# Altium footprint library dsau-motherboard.PcbLib: 22 footprints (part 1 of 2)
Each footprint in its own frame and in the unit in brackets; x right, y up, seen from the top. Pads: shape width x height; smd on the part's side, far side on the other; paste and mask are expansions set on the pad; w line width, h text height; cw(c..) or ccw(c..) is an arc to the next point about the centre after c.
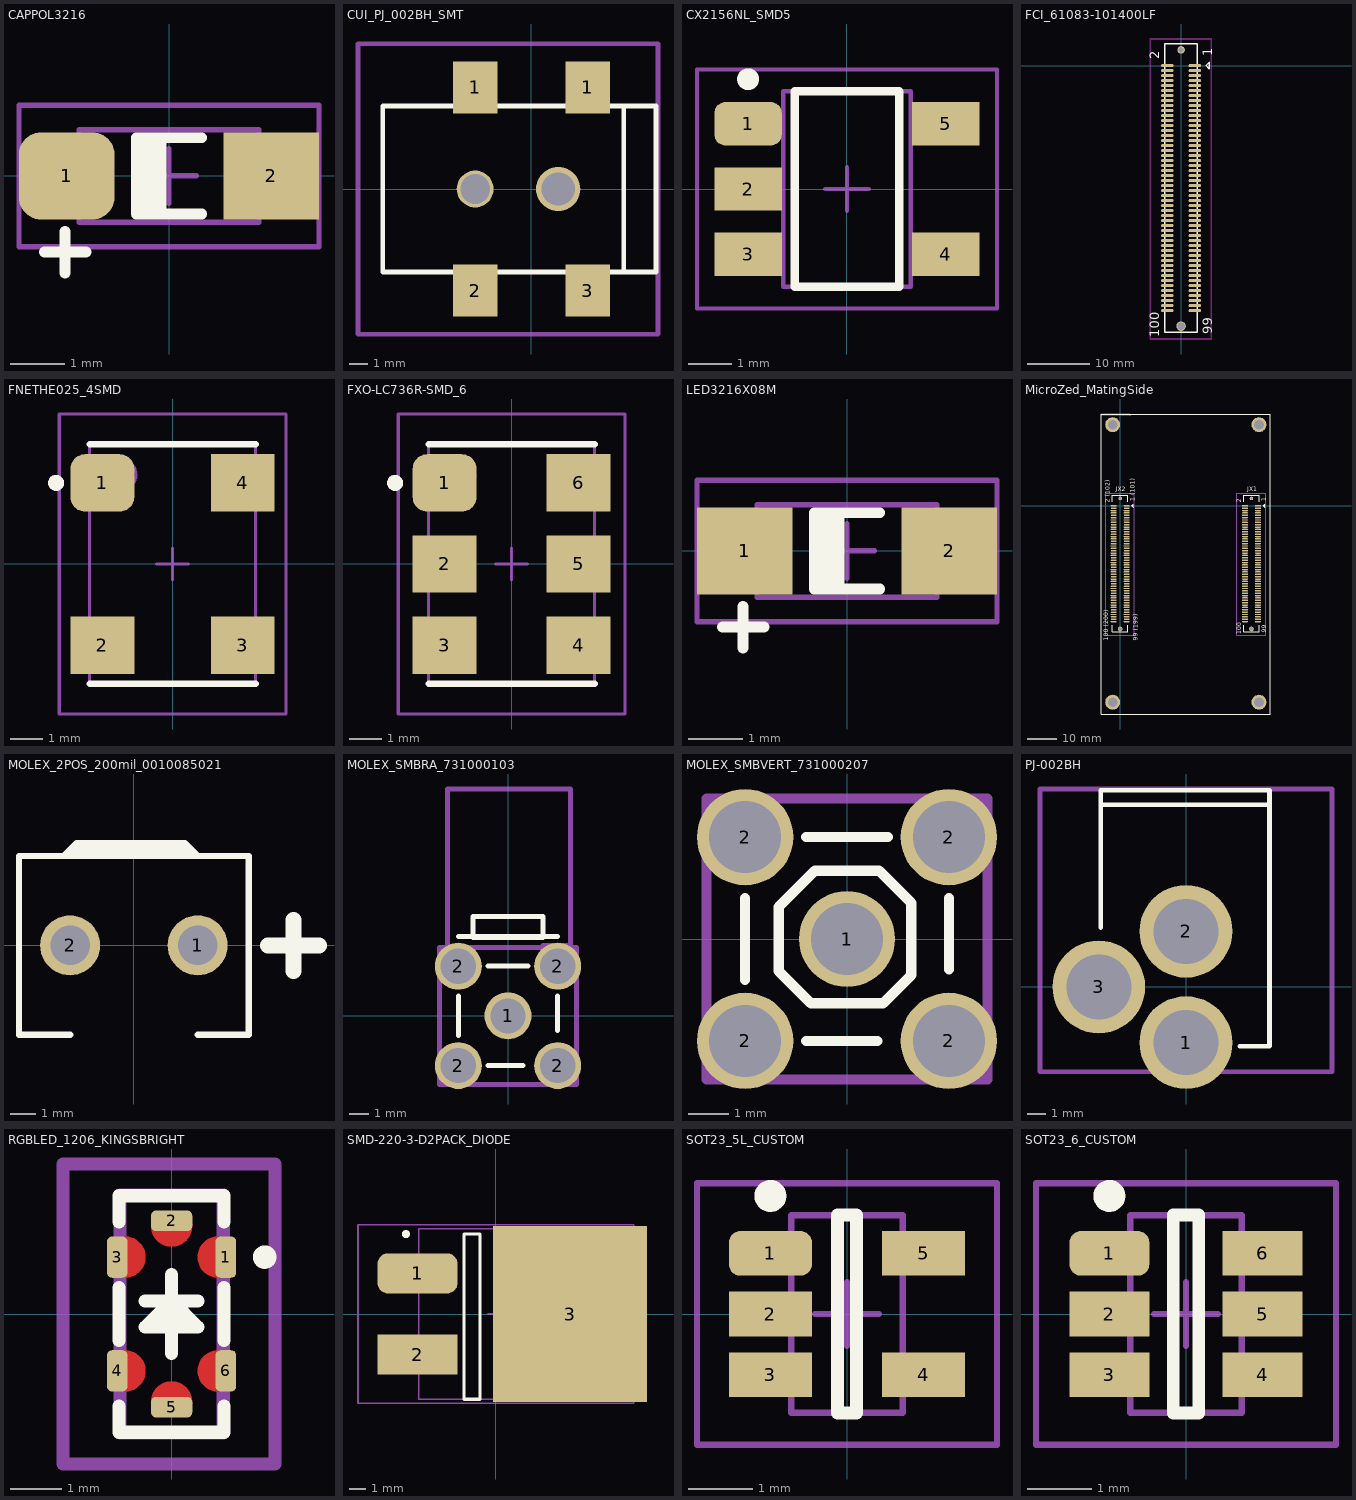
[diagram p0: the footprints below, top view; thin cyan lines are the x and y axes]

## CAPPOL3216 [mm] "Chip LED 2-Leads, Body 3.2x1.6mm, IPC Low Density"
height 0.75
pads (2):
  rrect50% 1.75x1.6 smd: 1(-1.875,0)
  rect 1.75x1.6 smd: 2(1.875,0)
Top Overlay:
  rectangle: -0.6,-0.7 -0.05,0.7
  lines w0.2: -1.905,-1.143 -1.905,-1.651 ; -1.651,-1.397 -2.159,-1.397 -1.905,-1.397 ; -1.524,-1.397 -2.286,-1.397 -1.905,-1.397 ; 0.6,-0.7 -0.6,-0.7 -0.6,0.7 0.6,0.7 ; -1.905,-1.651 -1.905,-1.397 ; -1.905,-1.651 -1.905,-1.778 -1.905,-1.016 -1.905,-1.397
Mechanical 13:
  lines w0.1: -1.65,-0.85 -1.65,0.85 1.65,0.85 1.65,-0.85 -1.65,-0.85
Mechanical 15:
  lines w0.1: -0.5,0 0.5,0 ; 0,-0.5 0,0.5 ; -2.75,-1.3 -2.75,1.3 2.75,1.3 2.75,-1.3 -2.75,-1.3
3D body: height 1.55, standoff 0, extent -1.65,-0.95 -0.775,0.95
3D body: height 1.55, standoff 0, extent 0.775,-0.95 1.65,0.925
3D body: height 1.5, standoff 0, extent -0.775,-0.9 0.775,0.9

## CUI_PJ_002BH_SMT [mm] "power connector"
pads (6):
  rect 2.4x2.8 smd: 1(-3.05,5.5) 1(3.05,5.5) 2(-3.05,-5.5) 3(3.05,-5.5)
  round 2 hole 1.6: ""(-3.05,0)
  round 2.4 hole 1.8: ""(1.45,0)
Top Overlay:
  lines w0.254: 5,-4.5 5,4.5 ; -8.05,-4.5 6.75,-4.5 6.75,4.5 -8.05,4.5 -8.05,-4.5
Mechanical 13:
  lines w0.254: -9.398,0 -9.398,7.874 6.858,7.874 6.858,-7.874 -9.398,-7.874 -9.398,0.254
3D body: height 0.4, standoff 0, extent 2.262,-6.075 3.837,-4.5
3D body: height 0.4, standoff 0, extent -3.837,-6.075 -2.262,-4.5
3D body: height 0.4, standoff 0, extent -3.838,4.5 -2.263,6.075
3D body: height 0.4, standoff 0, extent 2.262,4.5 3.837,6.075
3D body: height 11.2, standoff 0.2, extent -8.05,-4.5 6.75,4.5
3D body: height 0, standoff -1.2, extent 0.656,-0.773 2.25,0.823
3D body: height 0, standoff -1.2, extent -3.648,-0.573 -2.452,0.625

## CX2156NL_SMD5 [mm] "SOT23, 5-Leads, Body 4.5x5.4mm (max), Pitch 1.50mm, IPC Low Density"
height 3
pads (5):
  rrect50% 1.55x1 smd: 1(-2.275,1.5)
  rect 1.55x1 smd: 2(-2.275,0) 3(-2.275,-1.5) 4(2.275,-1.5) 5(2.275,1.5)
Top Overlay:
  circle w0.25: c-2.275,2.525 r0.125
  lines w0.2: -1.2,-2.25 1.2,-2.25 1.2,2.25 -1.2,2.25 -1.2,-2.25
Mechanical 13:
  lines w0.1: -1.47,-2.25 -1.47,2.25 1.47,2.25 1.47,-2.25 -1.47,-2.25
Mechanical 15:
  lines w0.1: -0.5,0 0.5,0 ; 0,-0.5 0,0.5 ; -3.45,-2.75 -3.45,2.75 3.45,2.75 3.45,-2.75 -3.45,-2.75
3D body: height 3, standoff 0.13, extent -1.47,-2.25 1.47,2.25

## FCI_61083-101400LF [mm]
pads (102):
  oval 2x0.5 smd: 1(2.2,0) 2(2.2,-0.8) 3(2.2,-1.6) 4(2.2,-2.4) 5(2.2,-3.2) 6(2.2,-4) 7(2.2,-4.8) 8(2.2,-5.6) 9(2.2,-6.4) 10(2.2,-7.2) 11(2.2,-8) 12(2.2,-8.8) 13(2.2,-9.6) 14(2.2,-10.4) 15(2.2,-11.2) 16(2.2,-12) 17(2.2,-12.8) 18(2.2,-13.6) 19(2.2,-14.4) 20(2.2,-15.2) 21(2.2,-16) 22(2.2,-16.8) 23(2.2,-17.6) 24(2.2,-18.4) 25(2.2,-19.2) 26(2.2,-20) 27(2.2,-20.8) 28(2.2,-21.6) 29(2.2,-22.4) 30(2.2,-23.2) 31(2.2,-24) 32(2.2,-24.8) 33(2.2,-25.6) 34(2.2,-26.4) 35(2.2,-27.2) 36(2.2,-28) 37(2.2,-28.8) 38(2.2,-29.6) 39(2.2,-30.4) 40(2.2,-31.2) 41(2.2,-32) 42(2.2,-32.8) 43(2.2,-33.6) 44(2.2,-34.4) 45(2.2,-35.2) 46(2.2,-36) 47(2.2,-36.8) 48(2.2,-37.6) 49(2.2,-38.4) 50(2.2,-39.2) 51(-2.2,-39.2) 52(-2.2,-38.4) 53(-2.2,-37.6) 54(-2.2,-36.8) 55(-2.2,-36) 56(-2.2,-35.2) 57(-2.2,-34.4) 58(-2.2,-33.6) 59(-2.2,-32.8) 60(-2.2,-32) 61(-2.2,-31.2) 62(-2.2,-30.4) 63(-2.2,-29.6) 64(-2.2,-28.8) 65(-2.2,-28) 66(-2.2,-27.2) 67(-2.2,-26.4) 68(-2.2,-25.6) 69(-2.2,-24.8) 70(-2.2,-24) 71(-2.2,-23.2) 72(-2.2,-22.4) 73(-2.2,-21.6) 74(-2.2,-20.8) 75(-2.2,-20) 76(-2.2,-19.2) 77(-2.2,-18.4) 78(-2.2,-17.6) 79(-2.2,-16.8) 80(-2.2,-16) 81(-2.2,-15.2) 82(-2.2,-14.4) 83(-2.2,-13.6) 84(-2.2,-12.8) 85(-2.2,-12) 86(-2.2,-11.2) 87(-2.2,-10.4) 88(-2.2,-9.6) 89(-2.2,-8.8) 90(-2.2,-8) 91(-2.2,-7.2) 92(-2.2,-6.4) 93(-2.2,-5.6) 94(-2.2,-4.8) 95(-2.2,-4) 96(-2.2,-3.2) 97(-2.2,-2.4) 98(-2.2,-1.6) 99(-2.2,-0.8) 100(-2.2,0)
  round 1.524 hole 1.2: ""(0,-41.7)
  round 1.2 hole 0.8: ""(0,2.5)
Top Overlay:
  lines w0.254: -2.6,1 -2.6,3.5 ; -2.6,1.1 -2.6,-42.7 -2.2,-42.7 2.6,-42.7 2.6,-39.2 2.6,3.5 -2.6,3.5 ; -2.6,3.5 -2.6,3.5 ; 4,0 4,0 ; 4,0 4.5,-0.5 4.5,0.5 4,0 ; 4,0 4,0
  text "99" at 5,-43 h1.52
  text "100" at -3.5,-43.5 h1.52
  text "2" at -3.5,1 h1.52
  text "1" at 5,1.5 h1.52
Keep-Out Layer:
  lines w0.254: 0.05,-43.75 4.8,-43.75 4.8,4.25 -4.95,4.25 -4.95,-43.75 0.3,-43.75
3D body: height 4.7, standoff 0, extent -2.6,-42.7 2.6,3.5
3D body: height 0, standoff -0.7, extent -0.35,2.101 0.447,2.899
3D body: height 0, standoff -0.7, extent -0.525,-42.25 0.571,-41.152

## FNETHE025_4SMD [mm] "QFN, 6-Leads, Body 7.5x5.2mm (max), Pitch 3.00mm, Pitch1 2.54mm, IPC Low Density"
height 1.4
pads (4):
  rrect50% 2x1.8 smd: 1(-2.2,2.54)
  rect 2x1.8 smd: 2(-2.2,-2.54) 3(2.2,-2.54) 4(2.2,2.54)
Top Overlay:
  circle w0.25: c-3.65,2.54 r0.125
  lines w0.2: -2.6,-3.75 0.2,-3.75 ; -2.6,3.75 0.2,3.75 ; -0.2,-3.75 2.6,-3.75 ; -0.2,3.75 2.6,3.75
Mechanical 13:
  circle w0.1: c-1.65,2.8 r0.5
  lines w0.1: -2.6,-3.75 -2.6,3.75 2.6,3.75 2.6,-3.75 -2.6,-3.75
Mechanical 15:
  lines w0.1: -0.5,0 0.5,0 ; 0,-0.5 0,0.5 ; -3.55,-4.7 -3.55,4.7 3.55,4.7 3.55,-4.7 -3.55,-4.7
3D body: height 1.4, standoff 0.08, extent -2.6,-3.75 2.6,3.75

## FXO-LC736R-SMD_6 [mm] "QFN, 6-Leads, Body 7.5x5.2mm (max), Pitch 3.00mm, Pitch1 2.54mm, IPC Low Density"
height 1.4
pads (6):
  rrect50% 2x1.8 smd: 1(-2.1,2.54)
  rect 2x1.8 smd: 2(-2.1,0) 3(-2.1,-2.54) 4(2.1,-2.54) 5(2.1,0) 6(2.1,2.54)
Top Overlay:
  circle w0.25: c-3.65,2.54 r0.125
  lines w0.2: -2.6,-3.75 0.2,-3.75 ; -2.6,3.75 0.2,3.75 ; -0.2,-3.75 2.6,-3.75 ; -0.2,3.75 2.6,3.75
Mechanical 13:
  circle w0.1: c-1.65,2.8 r0.5
  lines w0.1: -2.6,-3.75 2.6,-3.75 2.6,3.75 -2.6,3.75 -2.6,-3.75
Mechanical 15:
  lines w0.1: -0.5,0 0.5,0 ; 0,-0.5 0,0.5 ; -3.55,-4.7 3.55,-4.7 3.55,4.7 -3.55,4.7 -3.55,-4.7
3D body: height 1.4, standoff 0.08, extent -2.6,-3.75 2.6,3.75

## LED3216X08M [mm] "Chip LED 2-Leads, Body 3.2x1.6mm, IPC Low Density"
height 0.75
pads (2):
  rect 1.75x1.6 smd: 1(-1.875,0) 2(1.875,0)
Top Overlay:
  rectangle: -0.6,-0.7 -0.05,0.7
  lines w0.2: -1.905,-1.143 -1.905,-1.651 ; -1.651,-1.397 -2.159,-1.397 -1.905,-1.397 ; -1.524,-1.397 -2.286,-1.397 -1.905,-1.397 ; 0.6,-0.7 -0.6,-0.7 -0.6,0.7 0.6,0.7 ; -1.905,-1.651 -1.905,-1.397 ; -1.905,-1.651 -1.905,-1.778 -1.905,-1.016 -1.905,-1.397
Mechanical 13:
  lines w0.1: -1.65,-0.85 -1.65,0.85 1.65,0.85 1.65,-0.85 -1.65,-0.85
Mechanical 15:
  lines w0.1: -0.5,0 0.5,0 ; 0,-0.5 0,0.5 ; -2.75,-1.3 -2.75,1.3 2.75,1.3 2.75,-1.3 -2.75,-1.3
3D body: height 0.2, standoff 0, extent -1.65,-0.85 1.65,0.85
3D body: height 0.75, standoff 0, extent -1.016,-0.826 0.889,0.826
3D body: height 0.5, standoff 0, extent -0.508,-0.508 0.508,0.508

## MicroZed_MatingSide [mm]
pads (208):
  oval 2x0.5 smd: 1(46.663,0) 2(42.263,0) 3(46.663,-0.8) 4(42.263,-0.8) 5(46.663,-1.6) 6(42.263,-1.6) 7(46.663,-2.4) 8(42.263,-2.4) 9(46.663,-3.2) 10(42.263,-3.2) 11(46.663,-4) 12(42.263,-4) 13(46.663,-4.8) 14(42.263,-4.8) 15(46.663,-5.6) 16(42.263,-5.6) 17(46.663,-6.4) 18(42.263,-6.4) 19(46.663,-7.2) 20(42.263,-7.2) 21(46.663,-8) 22(42.263,-8) 23(46.663,-8.8) 24(42.263,-8.8) 25(46.663,-9.6) 26(42.263,-9.6) 27(46.663,-10.4) 28(42.263,-10.4) 29(46.663,-11.2) 30(42.263,-11.2) 31(46.663,-12) 32(42.263,-12) 33(46.663,-12.8) 34(42.263,-12.8) 35(46.663,-13.6) 36(42.263,-13.6) 37(46.663,-14.4) 38(42.263,-14.4) 39(46.663,-15.2) 40(42.263,-15.2) 41(46.663,-16) 42(42.263,-16) 43(46.663,-16.8) 44(42.263,-16.8) 45(46.663,-17.6) 46(42.263,-17.6) 47(46.663,-18.4) 48(42.263,-18.4) 49(46.663,-19.2) 50(42.263,-19.2) 51(46.663,-20) 52(42.263,-20) 53(46.663,-20.8) 54(42.263,-20.8) 55(46.663,-21.6) 56(42.263,-21.6) 57(46.663,-22.4) 58(42.263,-22.4) 59(46.663,-23.2) 60(42.263,-23.2) 61(46.663,-24) 62(42.263,-24) 63(46.663,-24.8) 64(42.263,-24.8) 65(46.663,-25.6) 66(42.263,-25.6) 67(46.663,-26.4) 68(42.263,-26.4) 69(46.663,-27.2) 70(42.263,-27.2) 71(46.663,-28) 72(42.263,-28) 73(46.663,-28.8) 74(42.263,-28.8) 75(46.663,-29.6) 76(42.263,-29.6) 77(46.663,-30.4) 78(42.263,-30.4) 79(46.663,-31.2) 80(42.263,-31.2) 81(46.663,-32) 82(42.263,-32) 83(46.663,-32.8) 84(42.263,-32.8) 85(46.663,-33.6) 86(42.263,-33.6) 87(46.663,-34.4) 88(42.263,-34.4) 89(46.663,-35.2) 90(42.263,-35.2) 91(46.663,-36) 92(42.263,-36) 93(46.663,-36.8) 94(42.263,-36.8) 95(46.663,-37.6) 96(42.263,-37.6) 97(46.663,-38.4) 98(42.263,-38.4) 99(46.663,-39.2) 100(42.263,-39.2) 101(2.2,0) 102(-2.2,0) 103(2.2,-0.8) 104(-2.2,-0.8) 105(2.2,-1.6) 106(-2.2,-1.6) 107(2.2,-2.4) 108(-2.2,-2.4) 109(2.2,-3.2) 110(-2.2,-3.2) 111(2.2,-4) 112(-2.2,-4) 113(2.2,-4.8) 114(-2.2,-4.8) 115(2.2,-5.6) 116(-2.2,-5.6) 117(2.2,-6.4) 118(-2.2,-6.4) 119(2.2,-7.2) 120(-2.2,-7.2) 121(2.2,-8) 122(-2.2,-8) 123(2.2,-8.8) 124(-2.2,-8.8) 125(2.2,-9.6) 126(-2.2,-9.6) 127(2.2,-10.4) 128(-2.2,-10.4) 129(2.2,-11.2) 130(-2.2,-11.2) 131(2.2,-12) 132(-2.2,-12) 133(2.2,-12.8) 134(-2.2,-12.8) 135(2.2,-13.6) 136(-2.2,-13.6) 137(2.2,-14.4) 138(-2.2,-14.4) 139(2.2,-15.2) 140(-2.2,-15.2) 141(2.2,-16) 142(-2.2,-16) 143(2.2,-16.8) 144(-2.2,-16.8) 145(2.2,-17.6) 146(-2.2,-17.6) 147(2.2,-18.4) 148(-2.2,-18.4) 149(2.2,-19.2) 150(-2.2,-19.2) 151(2.2,-20) 152(-2.2,-20) 153(2.2,-20.8) 154(-2.2,-20.8) 155(2.2,-21.6) 156(-2.2,-21.6) 157(2.2,-22.4) 158(-2.2,-22.4) 159(2.2,-23.2) 160(-2.2,-23.2) 161(2.2,-24) 162(-2.2,-24) 163(2.2,-24.8) 164(-2.2,-24.8) 165(2.2,-25.6) 166(-2.2,-25.6) 167(2.2,-26.4) 168(-2.2,-26.4) 169(2.2,-27.2) 170(-2.2,-27.2) 171(2.2,-28) 172(-2.2,-28) 173(2.2,-28.8) 174(-2.2,-28.8) 175(2.2,-29.6) 176(-2.2,-29.6) 177(2.2,-30.4) 178(-2.2,-30.4) 179(2.2,-31.2) 180(-2.2,-31.2) 181(2.2,-32) 182(-2.2,-32) 183(2.2,-32.8) 184(-2.2,-32.8) 185(2.2,-33.6) 186(-2.2,-33.6) 187(2.2,-34.4) 188(-2.2,-34.4) 189(2.2,-35.2) 190(-2.2,-35.2) 191(2.2,-36) 192(-2.2,-36) 193(2.2,-36.8) 194(-2.2,-36.8) 195(2.2,-37.6) 196(-2.2,-37.6) 197(2.2,-38.4) 198(-2.2,-38.4) 199(2.2,-39.2) 200(-2.2,-39.2)
  round 5.08 hole 3.302: ""(-2.534,-66.512) ""(-2.534,27.468) ""(46.996,-66.512) ""(46.996,27.468)
  round 1.575 hole 1.2: ""(0,-41.7) ""(44.463,-41.7)
  round 1.2 hole 0.8: ""(0,2.5) ""(44.463,2.5)
Top Overlay:
  lines w0.254: -2.6,-40.5 -2.6,-42.7 -2.2,-42.7 2.6,-42.7 2.6,-40.5 ; -2.6,1.3 -2.6,3.5 2.6,3.5 2.6,1.3 ; 41.9,-40.5 41.9,-42.7 42.3,-42.7 47.1,-42.7 47.1,-40.5 ; 41.9,1.3 41.9,3.5 47.1,3.5 47.1,1.3 ; 4,0 4,0 ; 4,0 4.5,-0.5 4.5,0.5 4,0 ; 4,0 4,0 ; 48.463,0 48.463,0 ; 48.463,0 48.963,0.5 48.963,-0.5 48.463,0 ; 48.463,0 48.463,0 ; -6.35,-70.5 50.8,-70.5 50.8,31.1 -6.35,31.1 -6.35,-70.5
  text "1" at 49.463,1.5 h1.52
  text "2" at 40.963,1 h1.52
  text "100" at 40.963,-43.5 h1.52
  text "99" at 49.463,-43 h1.52
  text "99 (199)" at 5.969,-45.72 h1.52
  text "100 (200)" at -4.064,-45.72 h1.52
  text "2 (102)" at -3.5,1 h1.52
  text "1 (101)" at 5,1.5 h1.52
  text "JX1" at 43,5 h1.52
  text "JX2" at -1.5,5 h1.52
Mechanical 13:
  lines w0.254: 0.05,-43.75 4.8,-43.75 4.8,4.25 -4.95,4.25 -4.95,-43.75 0.3,-43.75 ; 44.513,-43.75 49.263,-43.75 49.263,4.25 39.513,4.25 39.513,-43.75 44.763,-43.75
  lines w0.635: -6.4,30.9 3.2,30.9 3.3,30.8
3D body: height 0, standoff -0.7, extent 43.938,-42.25 45.033,-41.152
3D body: height 0, standoff -0.7, extent 44.113,2.101 44.91,2.899
3D body: height 7.62, standoff 0, extent 41.863,-42.7 47.063,3.5
3D body: height 7.62, standoff 0, extent -2.6,-42.7 2.6,3.5
3D body: height 0, standoff -0.7, extent -0.35,2.101 0.447,2.899
3D body: height 0, standoff -0.7, extent -0.525,-42.25 0.571,-41.152
3D body: height 9.14, standoff 7.62, extent -6.477,-70.612 51.054,31.115
3D body: height 29.97, standoff 9.14, extent 3.3,2.5 20.3,30.8

## MOLEX_2POS_200mil_0010085021 [mil]
pads (2):
  round 94 hole 62: 1(100,0) 2(-100,0)
Top Overlay:
  lines w10: -100,-140 -180,-140 -180,-70 -180,-60 -180,70 -180,140 -120,140 -110,140 ; 100,-140 180,-140 180,-70 180,70 180,140 100,140 ; -110,140 -90,160 80,160 100,140 ; -110,140 100,140
  lines w20: -90,150 80,150
  lines w25: 210,0 250,0 ; 220,0 290,0 250,0 ; 250,0 250,40 250,-40 250,0
3D body: height 586.42, standoff -161.61, extent -159.06,-120 159.06,130

## MOLEX_SMBRA_731000103 [mm]
height 9
pads (5):
  round 2.4 hole 1.8: 1(0,0) 2(-2.54,-2.54) 2(-2.54,2.54) 2(2.54,-2.54) 2(2.54,2.54)
Top Overlay:
  lines w0.254: -2.54,-1.016 -2.54,1.016 ; -1.016,-2.54 0.762,-2.54 ; -1.016,2.54 1.016,2.54 ; 2.54,-0.762 2.54,1.016 ; -2.54,4.064 2.54,4.064 -2.54,4.064 ; -1.8,4 1.8,4 1.8,5.08 -1.8,5.08 -1.8,4
Mechanical 13:
  lines w0.254: -0.9,3.5 0,3.5 -1.8,3.5 -3.1,3.5 -3.1,11.6 3.2,11.6 3.2,3.6 1.8,3.6 ; -3.5,-3.5 -3.5,1.5 -3.5,3.5 3.5,3.5 3.5,-3.5 -3.5,-3.5
3D body: height 9.57, standoff 0, extent -3.5,-3.5 3.5,3.5
3D body: height 0, standoff -3, extent 2,-3 2.996,-2.002
3D body: height 0, standoff -3, extent -3,-3 -2.004,-2.002
3D body: height 0, standoff -3, extent -3,2 -2.004,2.998
3D body: height 0, standoff -3, extent 2,2 2.996,2.998
3D body: height 0, standoff -3, extent -0.239,-0.2 0.239,0.279
3D body: height 8.17, standoff 1.83, extent -3.125,-0.015 3.2,11.615

## MOLEX_SMBVERT_731000207 [mm]
height 7.493
pads (5):
  round 2.4 hole 1.8: 1(0,0) 2(-2.54,-2.54) 2(-2.54,2.54) 2(2.54,-2.54) 2(2.54,2.54)
Top Overlay:
  lines w0.254: -2.54,-1.016 -2.54,1.016 ; -1.016,-2.54 0.762,-2.54 ; -1.016,2.54 1.016,2.54 ; 2.54,-0.762 2.54,1.016 ; -1.7,-0.8 -0.9,-1.6 0.9,-1.6 1.6,-0.9 1.6,0.9 0.8,1.7 -0.8,1.7 -1.7,0.8 -1.7,-0.8
Mechanical 13:
  lines w0.254: -1.8,3.5 0,3.5 -0.9,3.5 ; -3.5,-3.5 -3.5,1.5 -3.5,3.5 3.5,3.5 3.5,-3.5 -3.5,-3.5
3D body: height 1.14, standoff 0, extent -3.5,-3.5 3.5,3.5
3D body: height 0, standoff -3, extent 2,-3 2.996,-2.002
3D body: height 0, standoff -3, extent -3,-3 -2.004,-2.002
3D body: height 0, standoff -3, extent -3,2 -2.004,2.998
3D body: height 0, standoff -3, extent 2,2 2.996,2.998
3D body: height 0, standoff -3, extent -0.239,-0.2 0.239,0.279
3D body: height 7.49, standoff 0, extent -1.823,-1.803 1.823,1.85

## PJ-002BH [mm] "power connector"
pads (3):
  round 5 hole 3.5: 1(0,-3) 2(0,3) 3(-4.7,0)
Top Overlay:
  lines w0.254: -4.6,3.2 -4.6,10.6 ; -4.5,9.826 4.5,9.826 ; -4.5,10.6 4.5,10.6 4.5,-3.2 2.9,-3.2
Mechanical 13:
  lines w0.254: -0.254,-4.572 7.874,-4.572 7.874,10.668 -7.874,10.668 -7.874,-4.572 0,-4.572
3D body: height 11.2, standoff 0.2, extent -4.572,-3.224 4.572,10.668

## RGBLED_1206_KINGSBRIGHT [mm]
pads (6):
  rrect50% 0.4x0.8 smd: 1(1.05,1.1) 3(-1.05,1.1) 4(-1.05,-1.1) 6(1.05,-1.1)
  rrect50% 0.8x0.4 smd: 2(0,1.8) 5(0,-1.8)
Top Layer:
  lines w0.4: -0.9,-1.3 ccw(c-0.9,-1.1) -0.9,-0.9 ; -0.9,0.9 ccw(c-0.9,1.1) -0.9,1.3 ; -0.2,-1.7 cw(c0,-1.7) 0.2,-1.7 ; -0.2,1.7 ccw(c0,1.7) 0.2,1.7 ; 0.9,-1.3 cw(c0.9,-1.1) 0.9,-0.9 ; 0.9,0.9 cw(c0.9,1.1) 0.9,1.3
Top Overlay:
  circle w0.254: c1.8,1.1 r0.1
  lines w0.254: -1.016,-1.778 -1.016,-2.286 1.016,-2.286 1.016,-1.778 ; -1.016,-0.508 -1.016,0.508 ; -1.016,1.778 -1.016,2.286 1.016,2.286 1.016,1.778 ; 0,0.762 0,-0.762 0,-0.254 -0.254,0 -0.254,-0.254 0.254,-0.254 0,0 0,0.254 ; 1.016,-0.508 1.016,0.508 ; 0,0.254 -0.508,0.254 0.508,0.254 0,0.254 ; 0,0.254 -0.508,-0.254 0.508,-0.254 0,0.254
Top Solder:
  lines w0.6: -0.9,-1.3 ccw(c-0.9,-1.1) -0.9,-0.9 ; -0.9,0.9 ccw(c-0.9,1.1) -0.9,1.3 ; -0.2,-1.7 cw(c0,-1.7) 0.2,-1.7 ; -0.2,1.7 ccw(c0,1.7) 0.2,1.7 ; 0.9,-1.3 cw(c0.9,-1.1) 0.9,-0.9 ; 0.9,0.9 cw(c0.9,1.1) 0.9,1.3
Mechanical 1:
  lines w0.254: -1,-2.3 1,-2.3 1,2.3 -1,2.3 -1,-2.3
Mechanical 13:
  lines w0.254: -2.1,-2.9 -2.1,2.9 -1.1,2.9 2,2.9 2,-2.6 2,-2.9 -2.1,-2.9
3D body: height 0.75, standoff 0.25, extent -1,-1 1,1
3D body: height 0.25, standoff 0, extent -1,-1.6 1,1.6
3D body: height 0.4, standoff 0.25, extent -0.3,0 0.3,0.6
3D body: height 0.4, standoff 0.25, extent -0.6,-0.6 0,0
3D body: height 0.4, standoff 0.25, extent 0,-0.6 0.6,0

## SMD-220-3-D2PACK_DIODE [mm] "SOT223, 3-Leads, Body 10.7x15.9mm (max), Pitch 2.54mm, IPC Medium Density"
height 4.83
pads (3):
  rrect50% 5x2.5 smd: 1(-4.9,2.54)
  rect 5x2.5 smd: 2(-4.9,-2.54)
  rect 9.65x11 smd: 3(4.64,0)
Top Overlay:
  circle w0.25: c-5.625,5 r0.125
  lines w0.2: -2,-5.335 -1,-5.335 -1,5 -2,5 -2,-5.335
Mechanical 13:
  lines w0.1: -4.825,-5.335 4.825,-5.335 4.825,5.335 -4.825,5.335 -4.825,-5.335
Mechanical 15:
  lines w0.1: -0.5,0 0.5,0 ; 0,-0.5 0,0.5 ; -8.625,-5.585 8.625,-5.585 8.625,5.585 -8.625,5.585 -8.625,-5.585
3D body: height 4.83, standoff 0.02, extent -4.825,-5.335 4.825,5.335

## SOT23_5L_CUSTOM [mm] "SOT23, 5-Leads, Body 3.1x3.0mm (max), Pitch 0.95mm, IPC Low Density"
height 1.3
pads (5):
  rrect50% 1.3x0.7 smd: 1(-1.2,0.95)
  rect 1.3x0.7 smd: 2(-1.2,0) 3(-1.2,-0.95) 4(1.2,-0.95) 5(1.2,0.95)
Top Overlay:
  circle w0.25: c-1.2,1.85 r0.125
  lines w0.2: -0.15,-1.55 -0.15,1.55 0.15,1.55 0.15,-1.55 -0.15,-1.55
Mechanical 13:
  lines w0.1: -0.875,-1.55 0.875,-1.55 0.875,1.55 -0.875,1.55 -0.875,-1.55
Mechanical 15:
  lines w0.1: -0.5,0 0.5,0 ; 0,-0.5 0,0.5 ; -2.35,-2.05 2.35,-2.05 2.35,2.05 -2.35,2.05 -2.35,-2.05
3D body: height 1.3, standoff 0.13, extent -0.875,-1.55 0.875,1.55

## SOT23_6_CUSTOM [mm]
height 1.3
pads (6):
  rrect50% 1.25x0.7 smd: 1(-1.2,0.95)
  rect 1.25x0.7 smd: 2(-1.2,0) 3(-1.2,-0.95) 4(1.2,-0.95) 5(1.2,0) 6(1.2,0.95)
Top Overlay:
  circle w0.25: c-1.2,1.85 r0.125
  lines w0.2: -0.2,-1.55 0.2,-1.55 0.2,1.55 -0.2,1.55 -0.2,-1.55
Mechanical 13:
  lines w0.1: -0.875,-1.55 -0.875,1.55 0.875,1.55 0.875,-1.55 -0.875,-1.55
Mechanical 15:
  lines w0.1: -0.5,0 0.5,0 ; 0,-0.5 0,0.5 ; -2.35,-2.05 -2.35,2.05 2.35,2.05 2.35,-2.05 -2.35,-2.05
3D body: height 1.3, standoff 0.13, extent -0.875,-1.55 0.875,1.55